# EAGLE library part DS2782G+ (library DS278x)
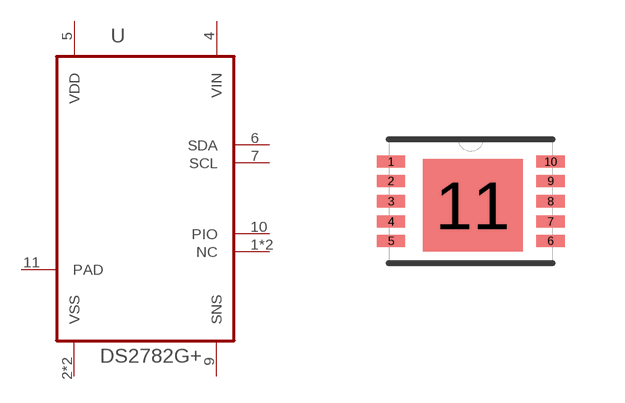
[diagram p1: symbol with the pads of DFN300X400; footprint DFN300X400]

Designator prefix -

## DS2782G+  [DFN300X400]
1  NC  in
2  VSS  pas
3  VSS  pas
4  VIN  in
5  VDD  pwr
6  SDA  out
7  SCL  in
8  NC  in
9  SNS  in
10  PIO  in
11  PAD  pas

## Footprint DFN300X400 (pad centres in mm)
smd 0.711 x 0.305: 1 -1.999,0.991; 2 -1.999,0.508; 3 -1.999,0; 4 -1.999,-0.508; 5 -1.999,-0.991; 6 1.999,-0.991; 7 1.999,-0.508; 8 1.999,0; 9 1.999,0.508; 10 1.999,0.991
smd 2.499 x 2.311: 11 0.051,-0.102